# Altium footprint library KLS3-MT-12x7.5.PcbLib: 1 footprints
Each footprint in its own frame and in the unit in brackets; x right, y up, seen from the top. Pads: shape width x height; smd on the part's side, far side on the other; paste and mask are expansions set on the pad; w line width, h text height; cw(c..) or ccw(c..) is an arc to the next point about the centre after c.
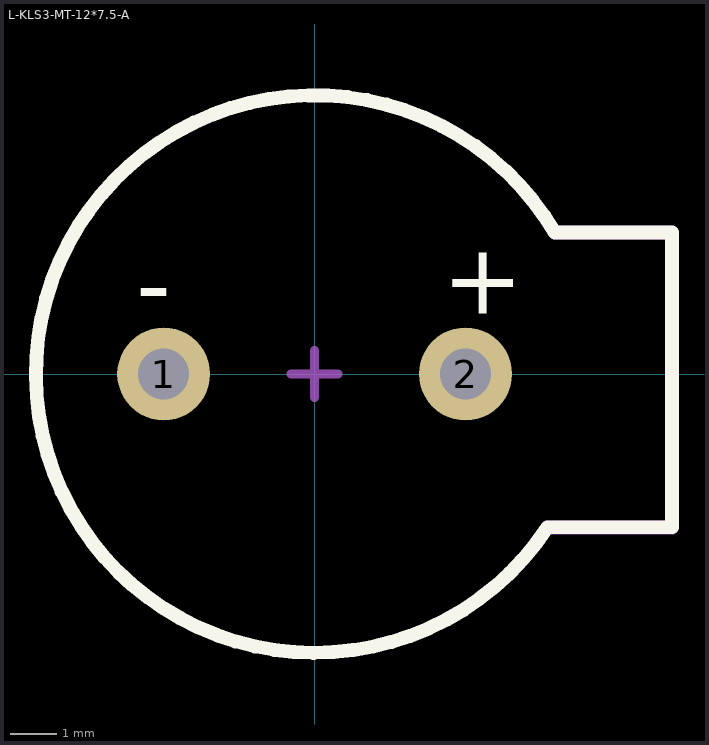
[diagram p0: the footprint, top view; thin cyan lines are the x and y axes]

## L-KLS3-MT-12*7.5-A [mm] "Magnetic Transducer Buzzer"
height 5
pads (2):
  round 2 hole 1.1: 1(-3.25,0) 2(3.25,0)
Top Overlay:
  lines w0.3: 5.01,-3.307 cw(c0,0) 5.174,3.044 7.694,3.044 ; 5.017,-3.3 7.7,-3.3 7.7,3.05
  text "+" at 2.754,1.3 h1.52
  text "-" at -3.846,1.192 h1.52
Top Component Center:
  lines w0.2: -0.5,0 0.5,0 ; 0,-0.5 0,0.5
Top Assembly:
  lines w0.254: 5.01,-3.307 cw(c0,0) 5.174,3.044 ccw(c0,0) 5.01,-3.307
  lines w0.3: 5.01,-3.307 7.693,-3.307 7.7,-3.3 7.7,3 7.656,3.044 5.174,3.044
Top Courtyard:
  lines w0.254: 5.01,-3.307 cw(c0,0) 5.174,3.044
  lines w0.3: 5.01,-3.307 7.7,-3.307 7.7,3 7.656,3.044 5.174,3.044
3D body "KLS3-MT-12.step": height 5, standoff -8, extent -6,-6.097 7.7,5.897